# EAGLE library part 93LC46B-I/ST (library mmWAVE)
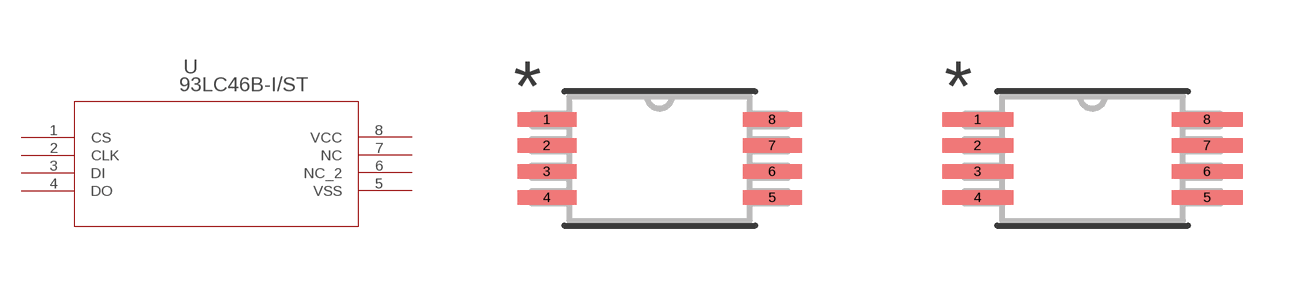
[diagram p6: symbol with the pads of TSSOP8_MC_MCH; footprints TSSOP8_MC_MCH, TSSOP8_MC_MCH-M]

Designator prefix U

## 93LC46B-I/ST (COPYRIGHT: Copyright (C) 2025 Ultra Librarian. All rights reserved.; MANUFACTURER_PART_NUMBER: 93LC46B-I/ST; MFR_NAME: Microchip)  [TSSOP8_MC_MCH]
1  CS  pas
2  CLK  pas
3  DI  pas
4  DO  pas
5  VSS  pas
6  NC_2  pas
7  NC  pas
8  VCC  pas

## 93LC46B-I/STTSSOP8_MC_MCH-M (COPYRIGHT: Copyright (C) 2025 Ultra Librarian. All rights reserved.; MANUFACTURER_PART_NUMBER: 93LC46B-I/ST; MFR_NAME: Microchip)  [TSSOP8_MC_MCH-M]
Pads as for TSSOP8_MC_MCH

## 93LC46B-I/STTSSOP8_MC_MCH-L (COPYRIGHT: Copyright (C) 2025 Ultra Librarian. All rights reserved.; MANUFACTURER_PART_NUMBER: 93LC46B-I/ST; MFR_NAME: Microchip)  [TSSOP8_MC_MCH-L]
Pads as for TSSOP8_MC_MCH

## Footprint TSSOP8_MC_MCH (pad centres in mm)
smd 1.473 x 0.356: 1 -2.819,0.975; 2 -2.819,0.325; 3 -2.819,-0.325; 4 -2.819,-0.975; 5 2.819,-0.975; 6 2.819,-0.325; 7 2.819,0.325; 8 2.819,0.975

## Footprint TSSOP8_MC_MCH-M (pad centres in mm)
smd 1.778 x 0.356: 1 -2.87,0.975; 2 -2.87,0.325; 3 -2.87,-0.325; 4 -2.87,-0.975; 5 2.87,-0.975; 6 2.87,-0.325; 7 2.87,0.325; 8 2.87,0.975

## Footprint TSSOP8_MC_MCH-L (pad centres in mm)
smd 1.168 x 0.305: 1 -2.768,0.975; 2 -2.768,0.325; 3 -2.768,-0.325; 4 -2.768,-0.975; 5 2.768,-0.975; 6 2.768,-0.325; 7 2.768,0.325; 8 2.768,0.975